# Altium footprint library HEADER-2X10-100mil.PcbLib: 1 footprints
Each footprint in its own frame and in the unit in brackets; x right, y up, seen from the top. Pads: shape width x height; smd on the part's side, far side on the other; paste and mask are expansions set on the pad; w line width, h text height; cw(c..) or ccw(c..) is an arc to the next point about the centre after c.
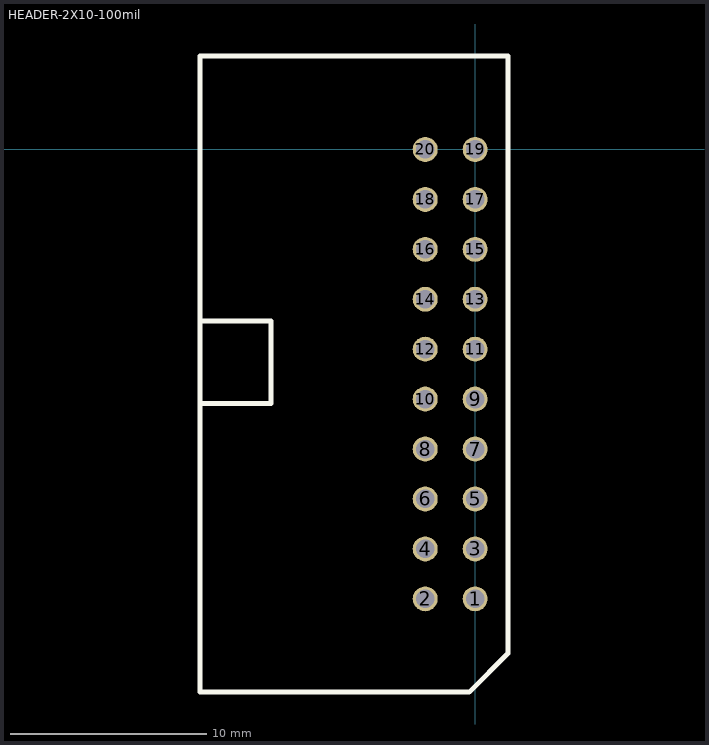
[diagram p0: the footprint, top view; thin cyan lines are the x and y axes]

## HEADER-2X10-100mil [mil]
pads (20):
  round 50 / inner round 40 / far side round 50 hole 37: 1(0,-900.59) 2(-100,-900.59) 3(0,-800.59) 4(-100,-800.59) 5(0,-700.59) 6(-100,-700.59) 7(0,-600.59) 8(-100,-600.59) 9(0,-500.59) 10(-100,-500.59) 11(0,-400.59) 12(-100,-400.59) 13(0,-300.59) 14(-100,-300.59) 15(0,-200.59) 16(-100,-200.59) 17(0,-100.59) 18(-100,-100.59) 19(0,-0.59) 20(-100,-0.59)
Top Overlay:
  lines w10: -550.2,-509.84 -408.46,-509.84 -408.46,-344.49 -550.2,-344.49 ; -551.18,-1087.6 -551.18,187.01 65.94,187.01 65.94,-1009.84 -11.81,-1087.6 -551.18,-1087.6